# Altium footprint library 2019-07-21_03-32-53.PcbLib: 6 footprints
Each footprint in its own frame and in the unit in brackets; x right, y up, seen from the top. Pads: shape width x height; smd on the part's side, far side on the other; paste and mask are expansions set on the pad; w line width, h text height; cw(c..) or ccw(c..) is an arc to the next point about the centre after c.
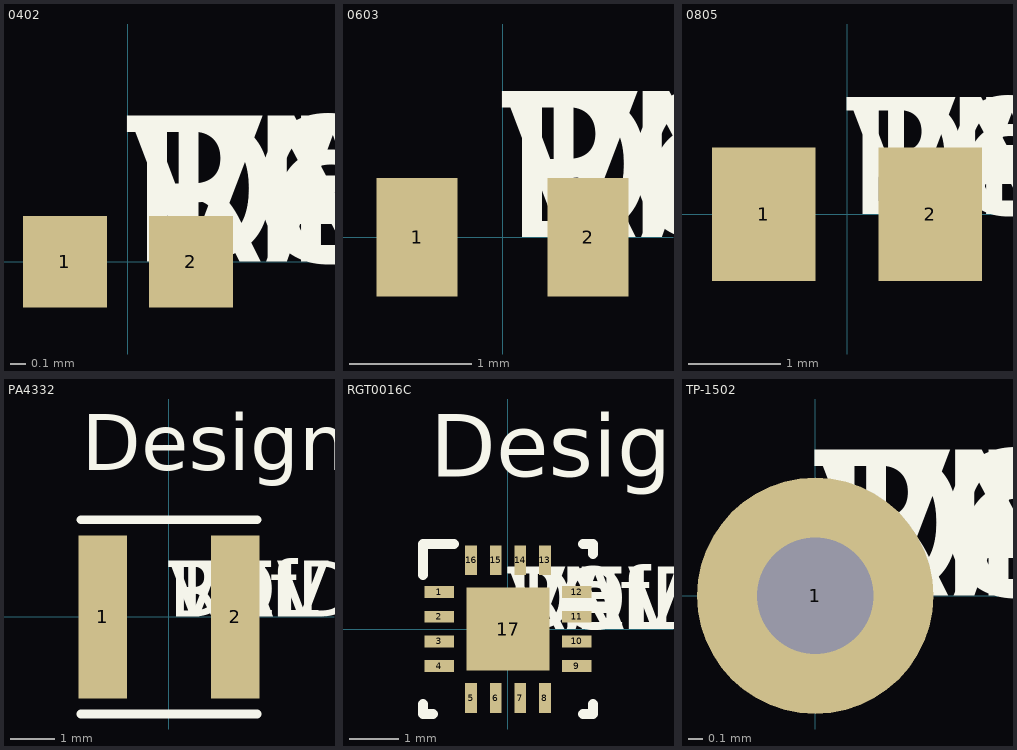
[diagram p0: the footprints below, top view; thin cyan lines are the x and y axes]

## 0402 [mil]
pads (2):
  rect 22x24 smd: 1(-16.5,0) 2(16.5,0)
Top Overlay:
  text "RefDes" at 0,0 h50
  text "DEV" at 0,0 h50
  text "PN" at 0,0 h50
  text "DEV" at 0,0 h50
  text "VAL" at 0,0 h50
  text "TOL" at 0,0 h50
3D body "0402.stp": height 22, standoff 0, extent -21.5,-12 21.5,12

## 0603 [mil]
pads (2):
  rect 26x38 smd: 1(-27.5,0) 2(27.5,0)
Top Overlay:
  text "RefDes" at 0,0 h50
  text "DEV" at 0,0 h50
  text "PN" at 0,0 h50
  text "DEV" at 0,0 h50
  text "VAL" at 0,0 h50
  text "TOL" at 0,0 h50
3D body "0603.stp": height 20, standoff 0, extent -34.5,-19 34.5,19

## 0805 [mil]
pads (2):
  rect 44x57 smd: 1(-35.5,0) 2(35.5,0)
Top Overlay:
  text "RefDes" at 0,0 h50
  text "DEV" at 0,0 h50
  text "PN" at 0,0 h50
  text "DEV" at 0,0 h50
  text "VAL" at 0,0 h50
  text "TOL" at 0,0 h50
3D body "0805.stp": height 57, standoff 0, extent -43.5,-28.5 43.5,28.5

## PA4332 [mm]
pads (2):
  rect 1.1x3.7 smd paste+0 mask+0.051: 1(-1.5,0) 2(1.5,0)
Top Overlay:
  lines w0.2: -2,-2.2 2,-2.2 ; -2,2.2 2,2.2
  text "Designator9" at -1.981,3.327 h1.27
  text "RefDes" at 0,0 h1.27
  text "DEV" at 0,0 h1.27
  text "PN" at 0,0 h1.27
  text "DEV" at 0,0 h1.27
  text "VAL" at 0,0 h1.27
  text "TOL" at 0,0 h1.27
3D body: height 0.25, standoff 0, extent 0,0 0.254,0.254

## RGT0016C [mm]
pads (17):
  rect 0.6x0.24 smd paste+0 mask+0.051: 1(-1.4,0.75) 2(-1.4,0.25) 3(-1.4,-0.25) 4(-1.4,-0.75) 9(1.4,-0.75) 10(1.4,-0.25) 11(1.4,0.25) 12(1.4,0.75)
  rect 0.24x0.6 smd paste+0 mask+0.051: 5(-0.75,-1.4) 6(-0.25,-1.4) 7(0.25,-1.4) 8(0.75,-1.4) 13(0.75,1.4) 14(0.25,1.4) 15(-0.25,1.4) 16(-0.75,1.4)
  rect 1.68x1.68 smd paste-0.827 mask+0.051: 17(0,0)
Top Overlay:
  lines w0.2: -1.725,-1.525 -1.725,-1.725 -1.525,-1.725 ; -1.725,1.1 -1.725,1.725 -1.1,1.725 ; 1.525,-1.725 1.725,-1.725 1.725,-1.525 ; 1.525,1.725 1.725,1.725 1.725,1.525
  text "Designator21" at -1.575,3.099 h1.27
  text "RefDes" at 0,0 h1.27
  text "DEV" at 0,0 h1.27
  text "PN" at 0,0 h1.27
  text "DEV" at 0,0 h1.27
  text "VAL" at 0,0 h1.27
  text "TOL" at 0,0 h1.27
Top Paste:
  region: -0.774,-0.738 -0.775,-0.728 -0.775,0.729 -0.774,0.738 -0.771,0.746 -0.767,0.754 -0.761,0.761 -0.754,0.767 -0.746,0.771 -0.738,0.774 -0.728,0.775 0.729,0.775 0.738,0.774 0.746,0.771 0.754,0.767 0.761,0.761 0.767,0.754 0.771,0.746 0.774,0.738 0.775,0.729 0.775,-0.728 0.774,-0.738 0.771,-0.746 0.767,-0.754 0.761,-0.761 0.754,-0.767 0.746,-0.771 0.738,-0.774 0.729,-0.775 -0.728,-0.775 -0.738,-0.774 -0.746,-0.771 -0.754,-0.767 -0.761,-0.761 -0.767,-0.754 -0.771,-0.746
3D body: height 0.25, standoff 0, extent 0,0 0.254,0.254

## TP-1502 [mil]
pads (1):
  round 65 / inner round 60 / far side round 65 hole 32: 1(0,0)
Top Overlay:
  text "RefDes" at 0,0 h50
  text "DEV" at 0,0 h50
  text "PN" at 0,0 h50
  text "DEV" at 0,0 h50
  text "VAL" at 0,0 h50
  text "TOL" at 0,0 h50
3D body: height 10, standoff 0, extent 0,0 10,10